# Altium footprint library WE-HCI_7050.PcbLib: 1 footprints
Each footprint in its own frame and in the unit in brackets; x right, y up, seen from the top. Pads: shape width x height; smd on the part's side, far side on the other; paste and mask are expansions set on the pad; w line width, h text height; cw(c..) or ccw(c..) is an arc to the next point about the centre after c.
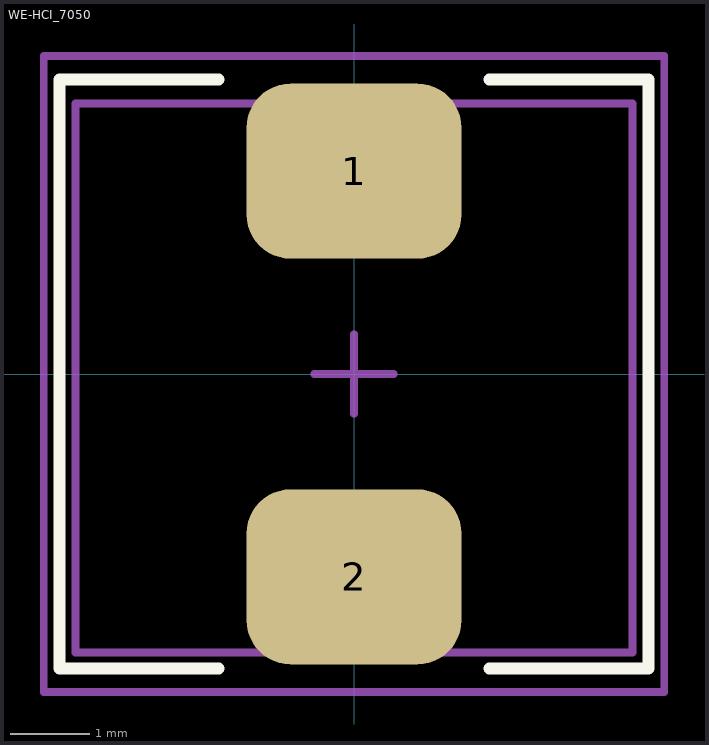
[diagram p0: the footprint, top view; thin cyan lines are the x and y axes]

## WE-HCI_7050 [mm]
pads (2):
  rrect50% 2.7x2.2 smd: 1(0,2.55) 2(0,-2.55)
Top Overlay:
  lines w0.15: -1.7,-3.7 -3.7,-3.7 -3.7,3.7 -1.7,3.7 ; 1.7,-3.7 3.7,-3.7 3.7,3.7 1.7,3.7
Top Assembly:
  lines w0.1: -3.5,-3.5 3.5,-3.5 3.5,3.4 -3.5,3.4 -3.5,-3.5
Top Courtyard:
  lines w0.1: -0.5,0 0.5,0 ; 0,-0.5 0,0.5 ; -3.9,-4 -3.9,4 0,4 3.9,4 3.9,-4 0,-4 -3.9,-4
3D body "WE-HCI_7050_744314 (rev1).stp": height 5, standoff 0, extent -3.45,-3.5 3.45,3.5